# Altium schematic symbol library GOSTCrystal.SchLib: 5 symbols
Pins are listed as number, name and electrical type; pins without a type are passive.

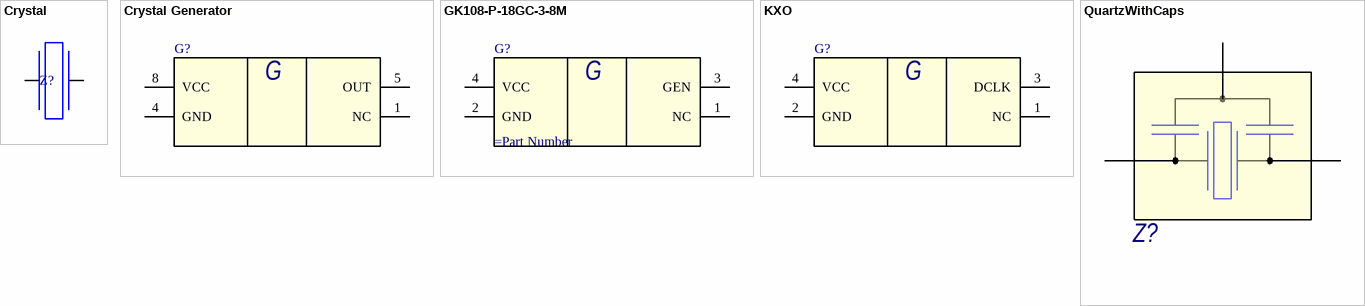
[diagram p0: symbols Crystal to QuartzWithCaps]

## Crystal
designator Z?
Кварцевый резонатор
pins: 1, 2

## Crystal Generator
designator G?
Кварц. генер. 32.768 МГц (HCMOS/TTL)
pins: 1 NC (power), 4 GND (power), 5 OUT (power), 8 VCC (power)
text: G

## GK108-P-18GC-3-8M
designator G?
Кварцевый генератор простой (тактовый) ГК108-П
pins: 1 NC (power), 2 GND (power), 3 GEN (power), 4 VCC (power)
text: G

## KXO
designator G?
Кварц. генер. 32.768 МГц (HCMOS/TTL)
pins: 1 NC (power), 2 GND (power), 3 DCLK (power), 4 VCC (power)
text: G

## QuartzWithCaps
designator Z?
Кварцевый резорнатор со встроенными нагрузочными конденсаторами
pins: 1, 2, 3